# Altium footprint library BVNZR000510.PcbLib: 1 footprints
Each footprint in its own frame and in the unit in brackets; x right, y up, seen from the top. Pads: shape width x height; smd on the part's side, far side on the other; paste and mask are expansions set on the pad; w line width, h text height; cw(c..) or ccw(c..) is an arc to the next point about the centre after c.
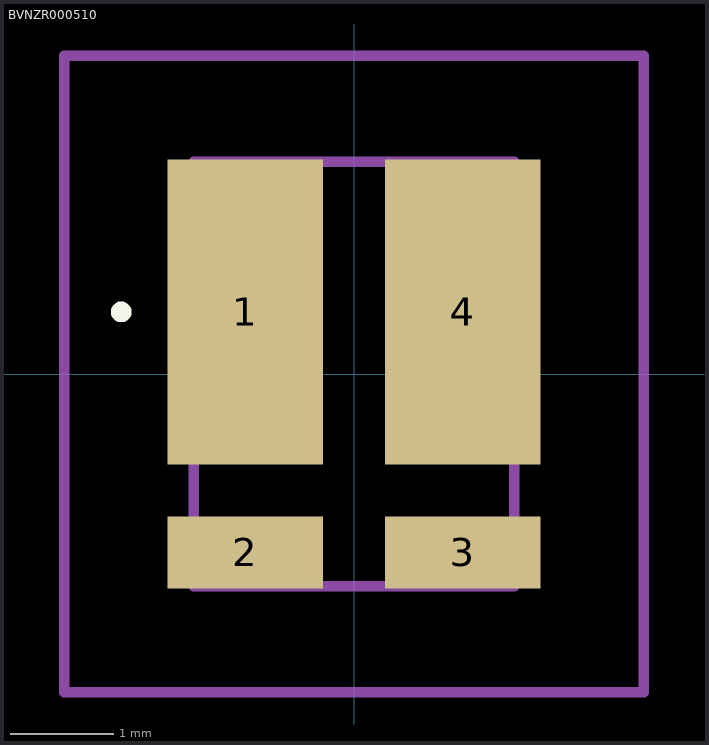
[diagram p0: the footprint, top view; thin cyan lines are the x and y axes]

## BVNZR000510 [mm]
pads (4):
  rect 1.5x2.95 smd: 1(-1.05,0.6) 4(1.05,0.6)
  rect 1.5x0.7 smd: 2(-1.05,-1.725) 3(1.05,-1.725)
Top Overlay:
  lines w0.1: -2.3,0.6 cw(c-2.25,0.6) -2.2,0.6 ; -2.3,0.6 -2.3,0.6 ; -2.3,0.6 ccw(c-2.25,0.6) -2.2,0.6 ; -2.2,0.6 -2.2,0.6
Mechanical 15:
  lines w0.1: -1.55,-2.05 1.55,-2.05 1.55,2.05 -1.55,2.05 -1.55,-2.05
Mechanical 20:
  lines w0.1: -2.8,-3.075 2.8,-3.075 2.8,3.075 -2.8,3.075 -2.8,-3.075